# Altium integrated library Capacitors - Ceramic - 0201.IntLib: 1723 symbols (part 28 of 38)
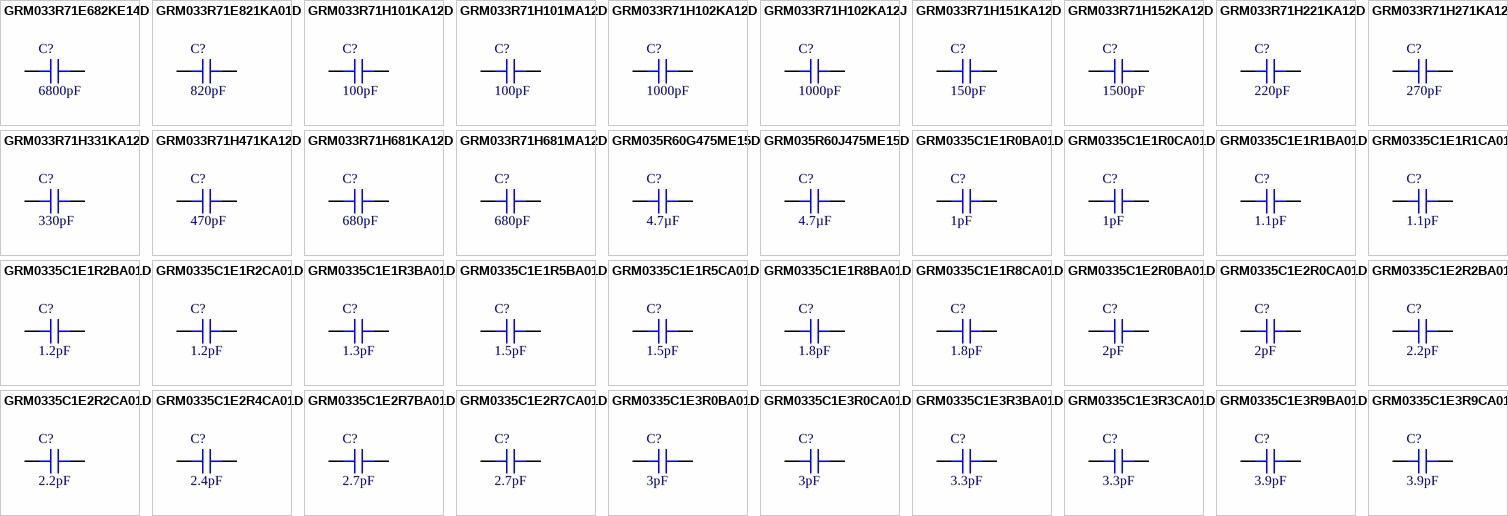
[diagram p70: symbols GRM033R71E682KE14D to GRM0335C1E3R9CA01D]

## GRM0335C1E2R0BA01D
designator C?, comment 2pF
CAP CER 2PF 25V C0G/NP0 0201; Part Number: GRM0335C1E2R0BA01D; Manufacturer: Murata Electronics; Temperature Coefficient: C0G, NP0; Tolerance: ±0.1pF; Value: 2pF; Applications: General Purpose; Capacitance: 2pF; ComponentLink1Description: Datasheet; ComponentLink1URL: https://www.murata.com/~/media/webrenewal/support/library/catalog/products/capacitor/mlcc/c02e.ashx?la=en-us; ComponentLink2Description: DigiKey Link; ComponentLink2URL: http://digikey.com/product-detail/en/murata-electronics/GRM0335C1E2R0BA01D/490-11290-1-ND/5333130; Device Package: 0201 (0603 Metric); LastUpdated: 9/2/2020 12:59:35 AM; Lifecycle Status: Active; Minimum Order: 1; Mounting Type: Surface Mount, MLCC; Operating Temperature: -55°C ~ 125°C; Package / Case: 0201 (0603 Metric); Packaging: CutTape; PartId: 522; Part Status: Active; Price: 0.10; Series: GRM; Size / Dimension: 0.024" L x 0.012" W (0.60mm x 0.30mm); Supplier 1: DigiKey; Supplier Part Number 1: 490-11290-1-ND; Thickness (Max): 0.013" (0.33mm); Voltage - Rated: 25V
footprint CAP 0201_0603
pins: 1, 2

## GRM0335C1E2R0CA01D
designator C?, comment 2pF
CAP CER 2PF 25V C0G/NP0 0201; Part Number: GRM0335C1E2R0CA01D; Manufacturer: Murata Electronics; Temperature Coefficient: C0G, NP0; Tolerance: ±0.25pF; Value: 2pF; Applications: General Purpose; Capacitance: 2pF; ComponentLink1Description: Datasheet; ComponentLink1URL: https://www.murata.com/~/media/webrenewal/support/library/catalog/products/capacitor/mlcc/c02e.ashx?la=en-us; ComponentLink2Description: DigiKey Link; ComponentLink2URL: http://digikey.com/product-detail/en/murata-electronics/GRM0335C1E2R0CA01D/490-11291-1-ND/5333131; Device Package: 0201 (0603 Metric); LastUpdated: 9/2/2020 12:58:59 AM; Lifecycle Status: Active; Minimum Order: 1; Mounting Type: Surface Mount, MLCC; Operating Temperature: -55°C ~ 125°C; Package / Case: 0201 (0603 Metric); Packaging: CutTape; PartId: 932; Part Status: Active; Price: 0.10; Series: GRM; Size / Dimension: 0.024" L x 0.012" W (0.60mm x 0.30mm); Supplier 1: DigiKey; Supplier Part Number 1: 490-11291-1-ND; Thickness (Max): 0.013" (0.33mm); Voltage - Rated: 25V
footprint CAP 0201_0603
pins: 1, 2

## GRM0335C1E2R2BA01D
designator C?, comment 2.2pF
CAP CER 2.2PF 25V C0G/NP0 0201; Part Number: GRM0335C1E2R2BA01D; Manufacturer: Murata Electronics; Temperature Coefficient: C0G, NP0; Tolerance: ±0.1pF; Value: 2.2pF; Applications: General Purpose; Capacitance: 2.2pF; ComponentLink1Description: Datasheet; ComponentLink1URL: https://www.murata.com/~/media/webrenewal/support/library/catalog/products/capacitor/mlcc/c02e.ashx?la=en-us; ComponentLink2Description: DigiKey Link; ComponentLink2URL: http://digikey.com/product-detail/en/murata-electronics/GRM0335C1E2R2BA01D/490-11292-1-ND/5333132; Device Package: 0201 (0603 Metric); LastUpdated: 9/2/2020 1:00:10 AM; Lifecycle Status: Active; Minimum Order: 1; Mounting Type: Surface Mount, MLCC; Operating Temperature: -55°C ~ 125°C; Package / Case: 0201 (0603 Metric); Packaging: CutTape; PartId: 117; Part Status: Active; Price: 0.10; Series: GRM; Size / Dimension: 0.024" L x 0.012" W (0.60mm x 0.30mm); Supplier 1: DigiKey; Supplier Part Number 1: 490-11292-1-ND; Thickness (Max): 0.013" (0.33mm); Voltage - Rated: 25V
footprint CAP 0201_0603
pins: 1, 2

## GRM0335C1E2R2CA01D
designator C?, comment 2.2pF
CAP CER 2.2PF 25V C0G/NP0 0201; Part Number: GRM0335C1E2R2CA01D; Manufacturer: Murata Electronics; Temperature Coefficient: C0G, NP0; Tolerance: ±0.25pF; Value: 2.2pF; Applications: General Purpose; Capacitance: 2.2pF; ComponentLink1Description: Datasheet; ComponentLink1URL: https://www.murata.com/~/media/webrenewal/support/library/catalog/products/capacitor/mlcc/c02e.ashx?la=en-us; ComponentLink2Description: DigiKey Link; ComponentLink2URL: http://digikey.com/product-detail/en/murata-electronics/GRM0335C1E2R2CA01D/490-11293-1-ND/5333133; Device Package: 0201 (0603 Metric); LastUpdated: 9/2/2020 12:59:01 AM; Lifecycle Status: Active; Minimum Order: 1; Mounting Type: Surface Mount, MLCC; Operating Temperature: -55°C ~ 125°C; Package / Case: 0201 (0603 Metric); Packaging: CutTape; PartId: 912; Part Status: Active; Price: 0.10; Series: GRM; Size / Dimension: 0.024" L x 0.012" W (0.60mm x 0.30mm); Supplier 1: DigiKey; Supplier Part Number 1: 490-11293-1-ND; Thickness (Max): 0.013" (0.33mm); Voltage - Rated: 25V
footprint CAP 0201_0603
pins: 1, 2

## GRM0335C1E2R4CA01D
designator C?, comment 2.4pF
CAP CER 2.4PF 25V C0G/NP0 0201; Part Number: GRM0335C1E2R4CA01D; Manufacturer: Murata Electronics; Temperature Coefficient: C0G, NP0; Tolerance: ±0.25pF; Value: 2.4pF; Applications: General Purpose; Capacitance: 2.4pF; ComponentLink1Description: Datasheet; ComponentLink1URL: https://www.murata.com/~/media/webrenewal/support/library/catalog/products/capacitor/mlcc/c02e.ashx?la=en-us; ComponentLink2Description: DigiKey Link; ComponentLink2URL: http://digikey.com/product-detail/en/murata-electronics/GRM0335C1E2R4CA01D/490-13321-1-ND/5973333; Device Package: 0201 (0603 Metric); LastUpdated: 9/2/2020 12:58:59 AM; Lifecycle Status: Active; Minimum Order: 1; Mounting Type: Surface Mount, MLCC; Operating Temperature: -55°C ~ 125°C; Package / Case: 0201 (0603 Metric); Packaging: CutTape; PartId: 939; Part Status: Active; Price: 0.10; Series: GRM; Size / Dimension: 0.024" L x 0.012" W (0.60mm x 0.30mm); Supplier 1: DigiKey; Supplier Part Number 1: 490-13321-1-ND; Thickness (Max): 0.013" (0.33mm); Voltage - Rated: 25V
footprint CAP 0201_0603
pins: 1, 2

## GRM0335C1E2R7BA01D
designator C?, comment 2.7pF
CAP CER 2.7PF 25V C0G/NP0 0201; Part Number: GRM0335C1E2R7BA01D; Manufacturer: Murata Electronics; Temperature Coefficient: C0G, NP0; Tolerance: ±0.1pF; Value: 2.7pF; Applications: General Purpose; Capacitance: 2.7pF; ComponentLink1Description: Datasheet; ComponentLink1URL: https://www.murata.com/~/media/webrenewal/support/library/catalog/products/capacitor/mlcc/c02e.ashx?la=en-us; ComponentLink2Description: DigiKey Link; ComponentLink2URL: http://digikey.com/product-detail/en/murata-electronics/GRM0335C1E2R7BA01D/490-11294-1-ND/5333134; Device Package: 0201 (0603 Metric); LastUpdated: 9/2/2020 12:59:34 AM; Lifecycle Status: Active; Minimum Order: 1; Mounting Type: Surface Mount, MLCC; Operating Temperature: -55°C ~ 125°C; Package / Case: 0201 (0603 Metric); Packaging: CutTape; PartId: 533; Part Status: Active; Price: 0.10; Series: GRM; Size / Dimension: 0.024" L x 0.012" W (0.60mm x 0.30mm); Supplier 1: DigiKey; Supplier Part Number 1: 490-11294-1-ND; Thickness (Max): 0.013" (0.33mm); Voltage - Rated: 25V
footprint CAP 0201_0603
pins: 1, 2

## GRM0335C1E2R7CA01D
designator C?, comment 2.7pF
CAP CER 2.7PF 25V C0G/NP0 0201; Part Number: GRM0335C1E2R7CA01D; Manufacturer: Murata Electronics; Temperature Coefficient: C0G, NP0; Tolerance: ±0.25pF; Value: 2.7pF; Applications: General Purpose; Capacitance: 2.7pF; ComponentLink1Description: Datasheet; ComponentLink1URL: https://www.murata.com/~/media/webrenewal/support/library/catalog/products/capacitor/mlcc/c02e.ashx?la=en-us; ComponentLink2Description: DigiKey Link; ComponentLink2URL: http://digikey.com/product-detail/en/murata-electronics/GRM0335C1E2R7CA01D/490-11970-1-ND/5403177; Device Package: 0201 (0603 Metric); LastUpdated: 9/2/2020 12:59:01 AM; Lifecycle Status: Active; Minimum Order: 1; Mounting Type: Surface Mount, MLCC; Operating Temperature: -55°C ~ 125°C; Package / Case: 0201 (0603 Metric); Packaging: CutTape; PartId: 917; Part Status: Active; Price: 0.10; Series: GRM; Size / Dimension: 0.024" L x 0.012" W (0.60mm x 0.30mm); Supplier 1: DigiKey; Supplier Part Number 1: 490-11970-1-ND; Thickness (Max): 0.013" (0.33mm); Voltage - Rated: 25V
footprint CAP 0201_0603
pins: 1, 2

## GRM0335C1E3R0BA01D
designator C?, comment 3pF
CAP CER 3PF 25V C0G/NP0 0201; Part Number: GRM0335C1E3R0BA01D; Manufacturer: Murata Electronics; Temperature Coefficient: C0G, NP0; Tolerance: ±0.1pF; Value: 3pF; Applications: General Purpose; Capacitance: 3pF; ComponentLink1Description: Datasheet; ComponentLink1URL: https://www.murata.com/~/media/webrenewal/support/library/catalog/products/capacitor/mlcc/c02e.ashx?la=en-us; ComponentLink2Description: DigiKey Link; ComponentLink2URL: http://digikey.com/product-detail/en/murata-electronics/GRM0335C1E3R0BA01D/490-12678-1-ND/5797647; Device Package: 0201 (0603 Metric); LastUpdated: 9/2/2020 12:59:36 AM; Lifecycle Status: Active; Minimum Order: 1; Mounting Type: Surface Mount, MLCC; Operating Temperature: -55°C ~ 125°C; Package / Case: 0201 (0603 Metric); Packaging: CutTape; PartId: 510; Part Status: Active; Price: 0.10; Series: GRM; Size / Dimension: 0.024" L x 0.012" W (0.60mm x 0.30mm); Supplier 1: DigiKey; Supplier Part Number 1: 490-12678-1-ND; Thickness (Max): 0.013" (0.33mm); Voltage - Rated: 25V
footprint CAP 0201_0603
pins: 1, 2

## GRM0335C1E3R0CA01D
designator C?, comment 3pF
CAP CER 3PF 25V C0G/NP0 0201; Part Number: GRM0335C1E3R0CA01D; Manufacturer: Murata Electronics; Temperature Coefficient: C0G, NP0; Tolerance: ±0.25pF; Value: 3pF; Applications: General Purpose; Capacitance: 3pF; ComponentLink1Description: Datasheet; ComponentLink1URL: https://www.murata.com/~/media/webrenewal/support/library/catalog/products/capacitor/mlcc/c02e.ashx?la=en-us; ComponentLink2Description: DigiKey Link; ComponentLink2URL: http://digikey.com/product-detail/en/murata-electronics/GRM0335C1E3R0CA01D/490-3127-1-ND/702668; Device Package: 0201 (0603 Metric); LastUpdated: 9/2/2020 12:59:02 AM; Lifecycle Status: Active; Minimum Order: 1; Mounting Type: Surface Mount, MLCC; Operating Temperature: -55°C ~ 125°C; Package / Case: 0201 (0603 Metric); Packaging: CutTape; PartId: 906; Part Status: Active; Price: 0.10; Series: GRM; Size / Dimension: 0.024" L x 0.012" W (0.60mm x 0.30mm); Supplier 1: DigiKey; Supplier Part Number 1: 490-3127-1-ND; Thickness (Max): 0.013" (0.33mm); Voltage - Rated: 25V
footprint CAP 0201_0603
pins: 1, 2

## GRM0335C1E3R3BA01D
designator C?, comment 3.3pF
CAP CER 3.3PF 25V C0G/NP0 0201; Part Number: GRM0335C1E3R3BA01D; Manufacturer: Murata Electronics; Temperature Coefficient: C0G, NP0; Tolerance: ±0.1pF; Value: 3.3pF; Applications: General Purpose; Capacitance: 3.3pF; ComponentLink1Description: Datasheet; ComponentLink1URL: https://www.murata.com/~/media/webrenewal/support/library/catalog/products/capacitor/mlcc/c02e.ashx?la=en-us; ComponentLink2Description: DigiKey Link; ComponentLink2URL: http://digikey.com/product-detail/en/murata-electronics/GRM0335C1E3R3BA01D/490-11296-1-ND/5333136; Device Package: 0201 (0603 Metric); LastUpdated: 9/2/2020 12:59:36 AM; Lifecycle Status: Active; Minimum Order: 1; Mounting Type: Surface Mount, MLCC; Operating Temperature: -55°C ~ 125°C; Package / Case: 0201 (0603 Metric); Packaging: CutTape; PartId: 511; Part Status: Active; Price: 0.10; Series: GRM; Size / Dimension: 0.024" L x 0.012" W (0.60mm x 0.30mm); Supplier 1: DigiKey; Supplier Part Number 1: 490-11296-1-ND; Thickness (Max): 0.013" (0.33mm); Voltage - Rated: 25V
footprint CAP 0201_0603
pins: 1, 2

## GRM0335C1E3R3CA01D
designator C?, comment 3.3pF
CAP CER 3.3PF 25V C0G/NP0 0201; Part Number: GRM0335C1E3R3CA01D; Manufacturer: Murata Electronics; Temperature Coefficient: C0G, NP0; Tolerance: ±0.25pF; Value: 3.3pF; Applications: General Purpose; Capacitance: 3.3pF; ComponentLink1Description: Datasheet; ComponentLink1URL: https://www.murata.com/~/media/webrenewal/support/library/catalog/products/capacitor/mlcc/c02e.ashx?la=en-us; ComponentLink2Description: DigiKey Link; ComponentLink2URL: http://digikey.com/product-detail/en/murata-electronics/GRM0335C1E3R3CA01D/490-11297-1-ND/5333137; Device Package: 0201 (0603 Metric); LastUpdated: 9/2/2020 12:59:00 AM; Lifecycle Status: Active; Minimum Order: 1; Mounting Type: Surface Mount, MLCC; Operating Temperature: -55°C ~ 125°C; Package / Case: 0201 (0603 Metric); Packaging: CutTape; PartId: 921; Part Status: Active; Price: 0.10; Series: GRM; Size / Dimension: 0.024" L x 0.012" W (0.60mm x 0.30mm); Supplier 1: DigiKey; Supplier Part Number 1: 490-11297-1-ND; Thickness (Max): 0.013" (0.33mm); Voltage - Rated: 25V
footprint CAP 0201_0603
pins: 1, 2

## GRM0335C1E3R9BA01D
designator C?, comment 3.9pF
CAP CER 3.9PF 25V C0G/NP0 0201; Part Number: GRM0335C1E3R9BA01D; Manufacturer: Murata Electronics; Temperature Coefficient: C0G, NP0; Tolerance: ±0.1pF; Value: 3.9pF; Applications: General Purpose; Capacitance: 3.9pF; ComponentLink1Description: Datasheet; ComponentLink1URL: https://www.murata.com/~/media/webrenewal/support/library/catalog/products/capacitor/mlcc/c02e.ashx?la=en-us; ComponentLink2Description: DigiKey Link; ComponentLink2URL: http://digikey.com/product-detail/en/murata-electronics/GRM0335C1E3R9BA01D/490-12679-1-ND/5797648; Device Package: 0201 (0603 Metric); LastUpdated: 9/2/2020 12:59:32 AM; Lifecycle Status: Active; Minimum Order: 1; Mounting Type: Surface Mount, MLCC; Operating Temperature: -55°C ~ 125°C; Package / Case: 0201 (0603 Metric); Packaging: CutTape; PartId: 549; Part Status: Active; Price: 0.10; Series: GRM; Size / Dimension: 0.024" L x 0.012" W (0.60mm x 0.30mm); Supplier 1: DigiKey; Supplier Part Number 1: 490-12679-1-ND; Thickness (Max): 0.013" (0.33mm); Voltage - Rated: 25V
footprint CAP 0201_0603
pins: 1, 2

## GRM0335C1E3R9CA01D
designator C?, comment 3.9pF
CAP CER 3.9PF 25V C0G/NP0 0201; Part Number: GRM0335C1E3R9CA01D; Manufacturer: Murata Electronics; Temperature Coefficient: C0G, NP0; Tolerance: ±0.25pF; Value: 3.9pF; Applications: General Purpose; Capacitance: 3.9pF; ComponentLink1Description: Datasheet; ComponentLink1URL: https://www.murata.com/~/media/webrenewal/support/library/catalog/products/capacitor/mlcc/c02e.ashx?la=en-us; ComponentLink2Description: DigiKey Link; ComponentLink2URL: http://digikey.com/product-detail/en/murata-electronics/GRM0335C1E3R9CA01D/490-10679-1-ND/5251426; Device Package: 0201 (0603 Metric); LastUpdated: 9/2/2020 1:00:06 AM; Lifecycle Status: Active; Minimum Order: 1; Mounting Type: Surface Mount, MLCC; Operating Temperature: -55°C ~ 125°C; Package / Case: 0201 (0603 Metric); Packaging: CutTape; PartId: 161; Part Status: Active; Price: 0.10; Series: GRM; Size / Dimension: 0.024" L x 0.012" W (0.60mm x 0.30mm); Supplier 1: DigiKey; Supplier Part Number 1: 490-10679-1-ND; Thickness (Max): 0.013" (0.33mm); Voltage - Rated: 25V
footprint CAP 0201_0603
pins: 1, 2

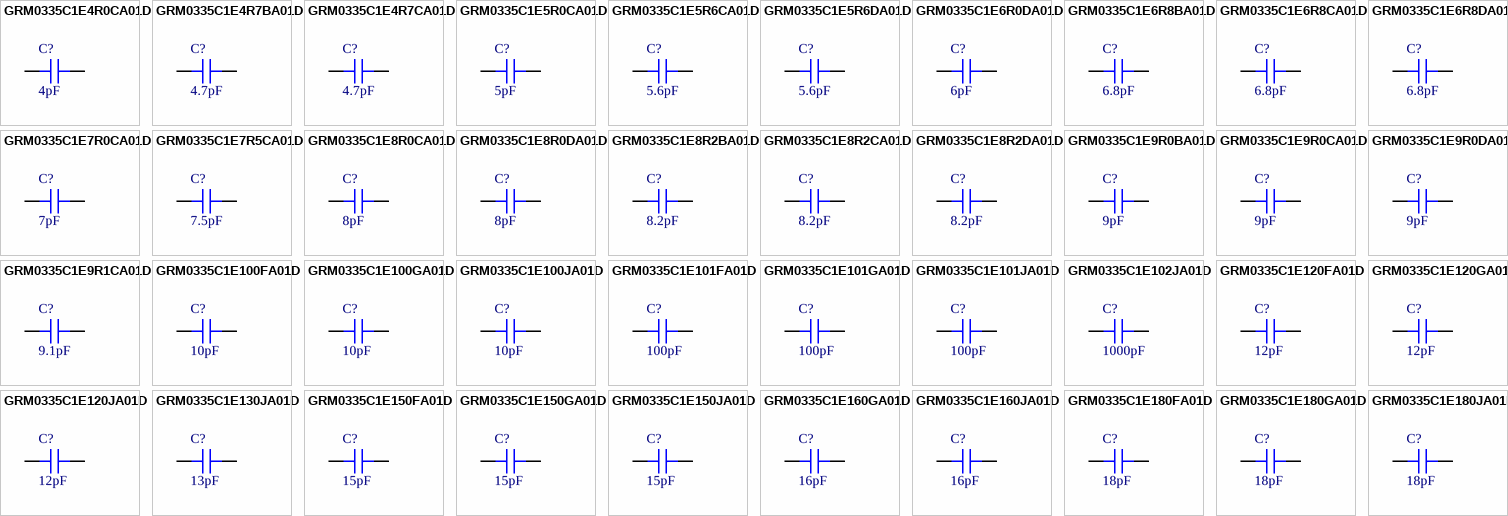
[diagram p31: symbols GRM0335C1E4R0CA01D to GRM0335C1E180JA01D]

## GRM0335C1E4R0CA01D
designator C?, comment 4pF
CAP CER 4PF 25V C0G/NP0 0201; Part Number: GRM0335C1E4R0CA01D; Manufacturer: Murata Electronics; Temperature Coefficient: C0G, NP0; Tolerance: ±0.25pF; Value: 4pF; Applications: General Purpose; Capacitance: 4pF; ComponentLink1Description: Datasheet; ComponentLink1URL: https://search.murata.co.jp/Ceramy/image/img/A01X/G101/ENG/GRM0335C1E4R0CA01-01.pdf; ComponentLink2Description: DigiKey Link; ComponentLink2URL: http://digikey.com/product-detail/en/murata-electronics/GRM0335C1E4R0CA01D/490-14549-1-ND/6606155; Device Package: 0201 (0603 Metric); LastUpdated: 9/2/2020 12:59:00 AM; Lifecycle Status: Active; Minimum Order: 1; Mounting Type: Surface Mount, MLCC; Operating Temperature: -55°C ~ 125°C; Package / Case: 0201 (0603 Metric); Packaging: CutTape; PartId: 927; Part Status: Active; Price: 0.10; Series: GRM; Size / Dimension: 0.024" L x 0.012" W (0.60mm x 0.30mm); Supplier 1: DigiKey; Supplier Part Number 1: 490-14549-1-ND; Thickness (Max): 0.013" (0.33mm); Voltage - Rated: 25V
footprint CAP 0201_0603
pins: 1, 2

## GRM0335C1E4R7BA01D
designator C?, comment 4.7pF
CAP CER 4.7PF 25V C0G/NP0 0201; Part Number: GRM0335C1E4R7BA01D; Manufacturer: Murata Electronics; Temperature Coefficient: C0G, NP0; Tolerance: ±0.1pF; Value: 4.7pF; Applications: General Purpose; Capacitance: 4.7pF; ComponentLink1Description: Datasheet; ComponentLink1URL: https://search.murata.co.jp/Ceramy/image/img/A01X/G101/ENG/GRM0335C1E4R7BA01-01.pdf; ComponentLink2Description: DigiKey Link; ComponentLink2URL: http://digikey.com/product-detail/en/murata-electronics/GRM0335C1E4R7BA01D/490-12680-1-ND/5797649; Device Package: 0201 (0603 Metric); LastUpdated: 9/2/2020 12:59:18 AM; Lifecycle Status: Active; Minimum Order: 1; Mounting Type: Surface Mount, MLCC; Operating Temperature: -55°C ~ 125°C; Package / Case: 0201 (0603 Metric); Packaging: CutTape; PartId: 715; Part Status: Active; Price: 0.10; Series: GRM; Size / Dimension: 0.024" L x 0.012" W (0.60mm x 0.30mm); Supplier 1: DigiKey; Supplier Part Number 1: 490-12680-1-ND; Thickness (Max): 0.013" (0.33mm); Voltage - Rated: 25V
footprint CAP 0201_0603
pins: 1, 2

## GRM0335C1E4R7CA01D
designator C?, comment 4.7pF
CAP CER 4.7PF 25V C0G/NP0 0201; Part Number: GRM0335C1E4R7CA01D; Manufacturer: Murata Electronics; Temperature Coefficient: C0G, NP0; Tolerance: ±0.25pF; Value: 4.7pF; Applications: General Purpose; Capacitance: 4.7pF; ComponentLink1Description: Datasheet; ComponentLink1URL: https://search.murata.co.jp/Ceramy/image/img/A01X/G101/ENG/GRM0335C1E4R7CA01-01.pdf; ComponentLink2Description: DigiKey Link; ComponentLink2URL: http://digikey.com/product-detail/en/murata-electronics/GRM0335C1E4R7CA01D/490-11299-1-ND/5333139; Device Package: 0201 (0603 Metric); LastUpdated: 9/2/2020 12:58:59 AM; Lifecycle Status: Active; Minimum Order: 1; Mounting Type: Surface Mount, MLCC; Operating Temperature: -55°C ~ 125°C; Package / Case: 0201 (0603 Metric); Packaging: CutTape; PartId: 938; Part Status: Active; Price: 0.10; Series: GRM; Size / Dimension: 0.024" L x 0.012" W (0.60mm x 0.30mm); Supplier 1: DigiKey; Supplier Part Number 1: 490-11299-1-ND; Thickness (Max): 0.013" (0.33mm); Voltage - Rated: 25V
footprint CAP 0201_0603
pins: 1, 2

## GRM0335C1E5R0CA01D
designator C?, comment 5pF
CAP CER 5PF 25V C0G/NP0 0201; Part Number: GRM0335C1E5R0CA01D; Manufacturer: Murata Electronics; Temperature Coefficient: C0G, NP0; Tolerance: ±0.25pF; Value: 5pF; Applications: General Purpose; Capacitance: 5pF; ComponentLink1Description: Datasheet; ComponentLink1URL: https://www.murata.com/~/media/webrenewal/support/library/catalog/products/capacitor/mlcc/c02e.ashx?la=en-us; ComponentLink2Description: DigiKey Link; ComponentLink2URL: http://digikey.com/product-detail/en/murata-electronics/GRM0335C1E5R0CA01D/490-3132-1-ND/702673; Device Package: 0201 (0603 Metric); LastUpdated: 9/2/2020 12:58:59 AM; Lifecycle Status: Active; Minimum Order: 1; Mounting Type: Surface Mount, MLCC; Operating Temperature: -55°C ~ 125°C; Package / Case: 0201 (0603 Metric); Packaging: CutTape; PartId: 936; Part Status: Active; Price: 0.10; Series: GRM; Size / Dimension: 0.024" L x 0.012" W (0.60mm x 0.30mm); Supplier 1: DigiKey; Supplier Part Number 1: 490-3132-1-ND; Thickness (Max): 0.013" (0.33mm); Voltage - Rated: 25V
footprint CAP 0201_0603
pins: 1, 2

## GRM0335C1E5R6CA01D
designator C?, comment 5.6pF
CAP CER 5.6PF 25V C0G/NP0 0201; Part Number: GRM0335C1E5R6CA01D; Manufacturer: Murata Electronics; Temperature Coefficient: C0G, NP0; Tolerance: ±0.25pF; Value: 5.6pF; Applications: General Purpose; Capacitance: 5.6pF; ComponentLink1Description: Datasheet; ComponentLink1URL: https://www.murata.com/~/media/webrenewal/support/library/catalog/products/capacitor/mlcc/c02e.ashx?la=en-us; ComponentLink2Description: DigiKey Link; ComponentLink2URL: http://digikey.com/product-detail/en/murata-electronics/GRM0335C1E5R6CA01D/490-11300-1-ND/5333140; Device Package: 0201 (0603 Metric); LastUpdated: 9/2/2020 12:59:02 AM; Lifecycle Status: Active; Minimum Order: 1; Mounting Type: Surface Mount, MLCC; Operating Temperature: -55°C ~ 125°C; Package / Case: 0201 (0603 Metric); Packaging: CutTape; PartId: 899; Part Status: Active; Price: 0.10; Series: GRM; Size / Dimension: 0.024" L x 0.012" W (0.60mm x 0.30mm); Supplier 1: DigiKey; Supplier Part Number 1: 490-11300-1-ND; Thickness (Max): 0.013" (0.33mm); Voltage - Rated: 25V
footprint CAP 0201_0603
pins: 1, 2

## GRM0335C1E5R6DA01D
designator C?, comment 5.6pF
CAP CER 5.6PF 25V NP0 0201; Part Number: GRM0335C1E5R6DA01D; Manufacturer: Murata Electronics; Temperature Coefficient: C0G, NP0; Tolerance: ±0.5pF; Value: 5.6pF; Applications: General Purpose; Capacitance: 5.6pF; ComponentLink1Description: Datasheet; ComponentLink1URL: https://search.murata.co.jp/Ceramy/image/img/A01X/G101/ENG/GRM0335C1E5R6DA01-01.pdf; ComponentLink2Description: DigiKey Link; ComponentLink2URL: http://digikey.com/product-detail/en/murata-electronics/GRM0335C1E5R6DA01D/490-17809-1-ND/8540045; Device Package: 0201 (0603 Metric); LastUpdated: 9/2/2020 12:59:02 AM; Lifecycle Status: Active; Minimum Order: 1; Mounting Type: Surface Mount, MLCC; Operating Temperature: -55°C ~ 125°C; Package / Case: 0201 (0603 Metric); Packaging: CutTape; PartId: 895; Part Status: Active; Price: 0.10; Series: GRM; Size / Dimension: 0.024" L x 0.012" W (0.60mm x 0.30mm); Supplier 1: DigiKey; Supplier Part Number 1: 490-17809-1-ND; Thickness (Max): 0.013" (0.33mm); Voltage - Rated: 25V
footprint CAP 0201_0603
pins: 1, 2

## GRM0335C1E6R0DA01D
designator C?, comment 6pF
CAP CER 6PF 25V NP0 0201; Part Number: GRM0335C1E6R0DA01D; Manufacturer: Murata Electronics; Temperature Coefficient: C0G, NP0; Tolerance: ±0.5pF; Value: 6pF; Applications: General Purpose; Capacitance: 6pF; ComponentLink1Description: Datasheet; ComponentLink1URL: https://search.murata.co.jp/Ceramy/image/img/A01X/G101/ENG/GRM0335C1E6R0DA01-01.pdf; ComponentLink2Description: DigiKey Link; ComponentLink2URL: http://digikey.com/product-detail/en/murata-electronics/GRM0335C1E6R0DA01D/490-16716-1-ND/7595624; Device Package: 0201 (0603 Metric); LastUpdated: 9/2/2020 12:58:49 AM; Lifecycle Status: Active; Minimum Order: 1; Mounting Type: Surface Mount, MLCC; Operating Temperature: -55°C ~ 125°C; Package / Case: 0201 (0603 Metric); Packaging: CutTape; PartId: 1053; Part Status: Active; Price: 0.10; Series: GRM; Size / Dimension: 0.024" L x 0.012" W (0.60mm x 0.30mm); Supplier 1: DigiKey; Supplier Part Number 1: 490-16716-1-ND; Thickness (Max): 0.013" (0.33mm); Voltage - Rated: 25V
footprint CAP 0201_0603
pins: 1, 2

## GRM0335C1E6R8BA01D
designator C?, comment 6.8pF
CAP CER 6.8PF 25V C0G/NP0 0201; Part Number: GRM0335C1E6R8BA01D; Manufacturer: Murata Electronics; Temperature Coefficient: C0G, NP0; Tolerance: ±0.1pF; Value: 6.8pF; Applications: General Purpose; Capacitance: 6.8pF; ComponentLink1Description: Datasheet; ComponentLink1URL: https://search.murata.co.jp/Ceramy/image/img/A01X/G101/ENG/GRM0335C1E6R8BA01-01.pdf; ComponentLink2Description: DigiKey Link; ComponentLink2URL: http://digikey.com/product-detail/en/murata-electronics/GRM0335C1E6R8BA01D/490-14551-1-ND/6606157; Device Package: 0201 (0603 Metric); LastUpdated: 9/2/2020 12:59:35 AM; Lifecycle Status: Active; Minimum Order: 1; Mounting Type: Surface Mount, MLCC; Operating Temperature: -55°C ~ 125°C; Package / Case: 0201 (0603 Metric); Packaging: CutTape; PartId: 517; Part Status: Active; Price: 0.10; Series: GRM; Size / Dimension: 0.024" L x 0.012" W (0.60mm x 0.30mm); Supplier 1: DigiKey; Supplier Part Number 1: 490-14551-1-ND; Thickness (Max): 0.013" (0.33mm); Voltage - Rated: 25V
footprint CAP 0201_0603
pins: 1, 2

## GRM0335C1E6R8CA01D
designator C?, comment 6.8pF
CAP CER 6.8PF 25V C0G/NP0 0201; Part Number: GRM0335C1E6R8CA01D; Manufacturer: Murata Electronics; Temperature Coefficient: C0G, NP0; Tolerance: ±0.25pF; Value: 6.8pF; Applications: General Purpose; Capacitance: 6.8pF; ComponentLink1Description: Datasheet; ComponentLink1URL: https://search.murata.co.jp/Ceramy/image/img/A01X/G101/ENG/GRM0335C1E6R8CA01-01.pdf; ComponentLink2Description: DigiKey Link; ComponentLink2URL: http://digikey.com/product-detail/en/murata-electronics/GRM0335C1E6R8CA01D/490-13323-1-ND/5973335; Device Package: 0201 (0603 Metric); LastUpdated: 9/2/2020 12:59:01 AM; Lifecycle Status: Active; Minimum Order: 1; Mounting Type: Surface Mount, MLCC; Operating Temperature: -55°C ~ 125°C; Package / Case: 0201 (0603 Metric); Packaging: CutTape; PartId: 913; Part Status: Active; Price: 0.10; Series: GRM; Size / Dimension: 0.024" L x 0.012" W (0.60mm x 0.30mm); Supplier 1: DigiKey; Supplier Part Number 1: 490-13323-1-ND; Thickness (Max): 0.013" (0.33mm); Voltage - Rated: 25V
footprint CAP 0201_0603
pins: 1, 2

## GRM0335C1E6R8DA01D
designator C?, comment 6.8pF
CAP CER 6.8PF 25V C0G/NP0 0201; Part Number: GRM0335C1E6R8DA01D; Manufacturer: Murata Electronics; Temperature Coefficient: C0G, NP0; Tolerance: ±0.5pF; Value: 6.8pF; Applications: General Purpose; Capacitance: 6.8pF; ComponentLink1Description: Datasheet; ComponentLink1URL: https://search.murata.co.jp/Ceramy/image/img/A01X/G101/ENG/GRM0335C1E6R8DA01-01.pdf; ComponentLink2Description: DigiKey Link; ComponentLink2URL: http://digikey.com/product-detail/en/murata-electronics/GRM0335C1E6R8DA01D/490-14552-1-ND/6606158; Device Package: 0201 (0603 Metric); LastUpdated: 9/2/2020 12:59:01 AM; Lifecycle Status: Active; Minimum Order: 1; Mounting Type: Surface Mount, MLCC; Operating Temperature: -55°C ~ 125°C; Package / Case: 0201 (0603 Metric); Packaging: CutTape; PartId: 914; Part Status: Active; Price: 0.10; Series: GRM; Size / Dimension: 0.024" L x 0.012" W (0.60mm x 0.30mm); Supplier 1: DigiKey; Supplier Part Number 1: 490-14552-1-ND; Thickness (Max): 0.013" (0.33mm); Voltage - Rated: 25V
footprint CAP 0201_0603
pins: 1, 2

## GRM0335C1E7R0CA01D
designator C?, comment 7pF
CAP CER 7PF 25V C0G/NP0 0201; Part Number: GRM0335C1E7R0CA01D; Manufacturer: Murata Electronics; Temperature Coefficient: C0G, NP0; Tolerance: ±0.25pF; Value: 7pF; Applications: General Purpose; Capacitance: 7pF; ComponentLink1Description: Datasheet; ComponentLink1URL: https://www.murata.com/~/media/webrenewal/support/library/catalog/products/capacitor/mlcc/c02e.ashx?la=en-us; ComponentLink2Description: DigiKey Link; ComponentLink2URL: http://digikey.com/product-detail/en/murata-electronics/GRM0335C1E7R0CA01D/490-13324-1-ND/5973336; Device Package: 0201 (0603 Metric); LastUpdated: 9/2/2020 12:59:00 AM; Lifecycle Status: Active; Minimum Order: 1; Mounting Type: Surface Mount, MLCC; Operating Temperature: -55°C ~ 125°C; Package / Case: 0201 (0603 Metric); Packaging: CutTape; PartId: 925; Part Status: Active; Price: 0.10; Series: GRM; Size / Dimension: 0.024" L x 0.012" W (0.60mm x 0.30mm); Supplier 1: DigiKey; Supplier Part Number 1: 490-13324-1-ND; Thickness (Max): 0.013" (0.33mm); Voltage - Rated: 25V
footprint CAP 0201_0603
pins: 1, 2

## GRM0335C1E7R5CA01D
designator C?, comment 7.5pF
CAP CER 7.5PF 25V C0G/NP0 0201; Part Number: GRM0335C1E7R5CA01D; Manufacturer: Murata Electronics; Temperature Coefficient: C0G, NP0; Tolerance: ±0.25pF; Value: 7.5pF; Applications: General Purpose; Capacitance: 7.5pF; ComponentLink1Description: Datasheet; ComponentLink1URL: https://www.murata.com/~/media/webrenewal/support/library/catalog/products/capacitor/mlcc/c02e.ashx?la=en-us; ComponentLink2Description: DigiKey Link; ComponentLink2URL: http://digikey.com/product-detail/en/murata-electronics/GRM0335C1E7R5CA01D/490-11302-1-ND/5333142; Device Package: 0201 (0603 Metric); LastUpdated: 9/2/2020 12:59:00 AM; Lifecycle Status: Active; Minimum Order: 1; Mounting Type: Surface Mount, MLCC; Operating Temperature: -55°C ~ 125°C; Package / Case: 0201 (0603 Metric); Packaging: CutTape; PartId: 924; Part Status: Active; Price: 0.10; Series: GRM; Size / Dimension: 0.024" L x 0.012" W (0.60mm x 0.30mm); Supplier 1: DigiKey; Supplier Part Number 1: 490-11302-1-ND; Thickness (Max): 0.013" (0.33mm); Voltage - Rated: 25V
footprint CAP 0201_0603
pins: 1, 2

## GRM0335C1E8R0CA01D
designator C?, comment 8pF
CAP CER 8PF 25V C0G/NP0 0201; Part Number: GRM0335C1E8R0CA01D; Manufacturer: Murata Electronics; Temperature Coefficient: C0G, NP0; Tolerance: ±0.25pF; Value: 8pF; Applications: General Purpose; Capacitance: 8pF; ComponentLink1Description: Datasheet; ComponentLink1URL: https://www.murata.com/~/media/webrenewal/support/library/catalog/products/capacitor/mlcc/c02e.ashx?la=en-us; ComponentLink2Description: DigiKey Link; ComponentLink2URL: http://digikey.com/product-detail/en/murata-electronics/GRM0335C1E8R0CA01D/490-12681-1-ND/5797650; Device Package: 0201 (0603 Metric); LastUpdated: 9/2/2020 12:59:01 AM; Lifecycle Status: Active; Minimum Order: 1; Mounting Type: Surface Mount, MLCC; Operating Temperature: -55°C ~ 125°C; Package / Case: 0201 (0603 Metric); Packaging: CutTape; PartId: 911; Part Status: Active; Price: 0.10; Series: GRM; Size / Dimension: 0.024" L x 0.012" W (0.60mm x 0.30mm); Supplier 1: DigiKey; Supplier Part Number 1: 490-12681-1-ND; Thickness (Max): 0.013" (0.33mm); Voltage - Rated: 25V
footprint CAP 0201_0603
pins: 1, 2

## GRM0335C1E8R0DA01D
designator C?, comment 8pF
CAP CER 8PF 25V NP0 0201; Part Number: GRM0335C1E8R0DA01D; Manufacturer: Murata Electronics; Temperature Coefficient: C0G, NP0; Tolerance: ±0.5pF; Value: 8pF; Applications: General Purpose; Capacitance: 8pF; ComponentLink1Description: Datasheet; ComponentLink1URL: https://search.murata.co.jp/Ceramy/image/img/A01X/G101/ENG/GRM0335C1E8R0DA01-01.pdf; ComponentLink2Description: DigiKey Link; ComponentLink2URL: http://digikey.com/product-detail/en/murata-electronics/GRM0335C1E8R0DA01D/490-16717-1-ND/7595625; Device Package: 0201 (0603 Metric); LastUpdated: 9/2/2020 12:58:15 AM; Lifecycle Status: Active; Minimum Order: 1; Mounting Type: Surface Mount, MLCC; Operating Temperature: -55°C ~ 125°C; Package / Case: 0201 (0603 Metric); Packaging: CutTape; PartId: 1435; Part Status: Active; Price: 0.10; Series: GRM; Size / Dimension: 0.024" L x 0.012" W (0.60mm x 0.30mm); Supplier 1: DigiKey; Supplier Part Number 1: 490-16717-1-ND; Thickness (Max): 0.013" (0.33mm); Voltage - Rated: 25V
footprint CAP 0201_0603
pins: 1, 2

## GRM0335C1E8R2BA01D
designator C?, comment 8.2pF
CAP CER 8.2PF 25V C0G/NP0 0201; Part Number: GRM0335C1E8R2BA01D; Manufacturer: Murata Electronics; Temperature Coefficient: C0G, NP0; Tolerance: ±0.1pF; Value: 8.2pF; Applications: General Purpose; Capacitance: 8.2pF; ComponentLink1Description: Datasheet; ComponentLink1URL: https://www.murata.com/~/media/webrenewal/support/library/catalog/products/capacitor/mlcc/c02e.ashx?la=en-us; ComponentLink2Description: DigiKey Link; ComponentLink2URL: http://digikey.com/product-detail/en/murata-electronics/GRM0335C1E8R2BA01D/490-11304-1-ND/5333144; Device Package: 0201 (0603 Metric); LastUpdated: 9/2/2020 12:58:52 AM; Lifecycle Status: Active; Minimum Order: 1; Mounting Type: Surface Mount, MLCC; Operating Temperature: -55°C ~ 125°C; Package / Case: 0201 (0603 Metric); Packaging: CutTape; PartId: 1012; Part Status: Active; Price: 0.10; Series: GRM; Size / Dimension: 0.024" L x 0.012" W (0.60mm x 0.30mm); Supplier 1: DigiKey; Supplier Part Number 1: 490-11304-1-ND; Thickness (Max): 0.013" (0.33mm); Voltage - Rated: 25V
footprint CAP 0201_0603
pins: 1, 2

## GRM0335C1E8R2CA01D
designator C?, comment 8.2pF
CAP CER 8.2PF 25V C0G/NP0 0201; Part Number: GRM0335C1E8R2CA01D; Manufacturer: Murata Electronics; Temperature Coefficient: C0G, NP0; Tolerance: ±0.25pF; Value: 8.2pF; Applications: General Purpose; Capacitance: 8.2pF; ComponentLink1Description: Datasheet; ComponentLink1URL: https://www.murata.com/~/media/webrenewal/support/library/catalog/products/capacitor/mlcc/c02e.ashx?la=en-us; ComponentLink2Description: DigiKey Link; ComponentLink2URL: http://digikey.com/product-detail/en/murata-electronics/GRM0335C1E8R2CA01D/490-11305-1-ND/5333145; Device Package: 0201 (0603 Metric); LastUpdated: 9/2/2020 12:59:01 AM; Lifecycle Status: Active; Minimum Order: 1; Mounting Type: Surface Mount, MLCC; Operating Temperature: -55°C ~ 125°C; Package / Case: 0201 (0603 Metric); Packaging: CutTape; PartId: 910; Part Status: Active; Price: 0.10; Series: GRM; Size / Dimension: 0.024" L x 0.012" W (0.60mm x 0.30mm); Supplier 1: DigiKey; Supplier Part Number 1: 490-11305-1-ND; Thickness (Max): 0.013" (0.33mm); Voltage - Rated: 25V
footprint CAP 0201_0603
pins: 1, 2

## GRM0335C1E8R2DA01D
designator C?, comment 8.2pF
CAP CER 8.2PF 25V C0G/NP0 0201; Part Number: GRM0335C1E8R2DA01D; Manufacturer: Murata Electronics; Temperature Coefficient: C0G, NP0; Tolerance: ±0.5pF; Value: 8.2pF; Applications: General Purpose; Capacitance: 8.2pF; ComponentLink1Description: Datasheet; ComponentLink1URL: https://www.murata.com/~/media/webrenewal/support/library/catalog/products/capacitor/mlcc/c02e.ashx?la=en-us; ComponentLink2Description: DigiKey Link; ComponentLink2URL: http://digikey.com/product-detail/en/murata-electronics/GRM0335C1E8R2DA01D/490-3140-1-ND/702681; Device Package: 0201 (0603 Metric); LastUpdated: 9/2/2020 12:59:02 AM; Lifecycle Status: Active; Minimum Order: 1; Mounting Type: Surface Mount, MLCC; Operating Temperature: -55°C ~ 125°C; Package / Case: 0201 (0603 Metric); Packaging: CutTape; PartId: 898; Part Status: Active; Price: 0.10; Series: GRM; Size / Dimension: 0.024" L x 0.012" W (0.60mm x 0.30mm); Supplier 1: DigiKey; Supplier Part Number 1: 490-3140-1-ND; Thickness (Max): 0.013" (0.33mm); Voltage - Rated: 25V
footprint CAP 0201_0603
pins: 1, 2

## GRM0335C1E9R0BA01D
designator C?, comment 9pF
CAP CER 9PF 25V C0G/NP0 0201; Part Number: GRM0335C1E9R0BA01D; Manufacturer: Murata Electronics; Temperature Coefficient: C0G, NP0; Tolerance: ±0.1pF; Value: 9pF; Applications: General Purpose; Capacitance: 9pF; ComponentLink1Description: Datasheet; ComponentLink1URL: https://www.murata.com/~/media/webrenewal/support/library/catalog/products/capacitor/mlcc/c02e.ashx?la=en-us; ComponentLink2Description: DigiKey Link; ComponentLink2URL: http://digikey.com/product-detail/en/murata-electronics/GRM0335C1E9R0BA01D/490-13325-1-ND/5973337; Device Package: 0201 (0603 Metric); LastUpdated: 9/2/2020 12:59:33 AM; Lifecycle Status: Active; Minimum Order: 1; Mounting Type: Surface Mount, MLCC; Operating Temperature: -55°C ~ 125°C; Package / Case: 0201 (0603 Metric); Packaging: CutTape; PartId: 544; Part Status: Active; Price: 0.10; Series: GRM; Size / Dimension: 0.024" L x 0.012" W (0.60mm x 0.30mm); Supplier 1: DigiKey; Supplier Part Number 1: 490-13325-1-ND; Thickness (Max): 0.013" (0.33mm); Voltage - Rated: 25V
footprint CAP 0201_0603
pins: 1, 2

## GRM0335C1E9R0CA01D
designator C?, comment 9pF
CAP CER 9PF 25V NP0 0201; Part Number: GRM0335C1E9R0CA01D; Manufacturer: Murata Electronics; Temperature Coefficient: C0G, NP0; Tolerance: ±0.25pF; Value: 9pF; Applications: General Purpose; Capacitance: 9pF; ComponentLink1Description: Datasheet; ComponentLink1URL: https://search.murata.co.jp/Ceramy/image/img/A01X/G101/ENG/GRM0335C1E9R0CA01-01.pdf; ComponentLink2Description: DigiKey Link; ComponentLink2URL: http://digikey.com/product-detail/en/murata-electronics/GRM0335C1E9R0CA01D/490-16718-1-ND/7595626; Device Package: 0201 (0603 Metric); LastUpdated: 9/2/2020 12:58:58 AM; Lifecycle Status: Active; Minimum Order: 1; Mounting Type: Surface Mount, MLCC; Operating Temperature: -55°C ~ 125°C; Package / Case: 0201 (0603 Metric); Packaging: CutTape; PartId: 942; Part Status: Active; Price: 0.10; Series: GRM; Size / Dimension: 0.024" L x 0.012" W (0.60mm x 0.30mm); Supplier 1: DigiKey; Supplier Part Number 1: 490-16718-1-ND; Thickness (Max): 0.013" (0.33mm); Voltage - Rated: 25V
footprint CAP 0201_0603
pins: 1, 2

## GRM0335C1E9R0DA01D
designator C?, comment 9pF
CAP CER 9PF 25V C0G/NP0 0201; Part Number: GRM0335C1E9R0DA01D; Manufacturer: Murata Electronics; Temperature Coefficient: C0G, NP0; Tolerance: ±0.5pF; Value: 9pF; Applications: General Purpose; Capacitance: 9pF; ComponentLink1Description: Datasheet; ComponentLink1URL: https://www.murata.com/~/media/webrenewal/support/library/catalog/products/capacitor/mlcc/c02e.ashx?la=en-us; ComponentLink2Description: DigiKey Link; ComponentLink2URL: http://digikey.com/product-detail/en/murata-electronics/GRM0335C1E9R0DA01D/490-13326-1-ND/5973338; Device Package: 0201 (0603 Metric); LastUpdated: 9/2/2020 12:59:00 AM; Lifecycle Status: Active; Minimum Order: 1; Mounting Type: Surface Mount, MLCC; Operating Temperature: -55°C ~ 125°C; Package / Case: 0201 (0603 Metric); Packaging: CutTape; PartId: 926; Part Status: Active; Price: 0.10; Series: GRM; Size / Dimension: 0.024" L x 0.012" W (0.60mm x 0.30mm); Supplier 1: DigiKey; Supplier Part Number 1: 490-13326-1-ND; Thickness (Max): 0.013" (0.33mm); Voltage - Rated: 25V
footprint CAP 0201_0603
pins: 1, 2

## GRM0335C1E9R1CA01D
designator C?, comment 9.1pF
CAP CER 9.1PF 25V NP0 0201; Part Number: GRM0335C1E9R1CA01D; Manufacturer: Murata Electronics; Temperature Coefficient: C0G, NP0; Tolerance: ±0.25pF; Value: 9.1pF; Applications: General Purpose; Capacitance: 9.1pF; ComponentLink1Description: Datasheet; ComponentLink1URL: https://search.murata.co.jp/Ceramy/image/img/A01X/G101/ENG/GRM0335C1E9R1CA01-01.pdf; ComponentLink2Description: DigiKey Link; ComponentLink2URL: http://digikey.com/product-detail/en/murata-electronics/GRM0335C1E9R1CA01D/490-16719-1-ND/7595627; Device Package: 0201 (0603 Metric); LastUpdated: 9/2/2020 12:58:59 AM; Lifecycle Status: Active; Minimum Order: 1; Mounting Type: Surface Mount, MLCC; Operating Temperature: -55°C ~ 125°C; Package / Case: 0201 (0603 Metric); Packaging: CutTape; PartId: 934; Part Status: Active; Price: 0.10; Series: GRM; Size / Dimension: 0.024" L x 0.012" W (0.60mm x 0.30mm); Supplier 1: DigiKey; Supplier Part Number 1: 490-16719-1-ND; Thickness (Max): 0.013" (0.33mm); Voltage - Rated: 25V
footprint CAP 0201_0603
pins: 1, 2

## GRM0335C1E100FA01D
designator C?, comment 10pF
CAP CER 10PF 25V C0G/NP0 0201; Part Number: GRM0335C1E100FA01D; Manufacturer: Murata Electronics; Temperature Coefficient: C0G, NP0; Tolerance: ±1%; Value: 10pF; Applications: General Purpose; Capacitance: 10pF; ComponentLink1Description: Datasheet; ComponentLink1URL: https://www.murata.com/~/media/webrenewal/support/library/catalog/products/capacitor/mlcc/c02e.ashx?la=en-us; ComponentLink2Description: DigiKey Link; ComponentLink2URL: http://digikey.com/product-detail/en/murata-electronics/GRM0335C1E100FA01D/490-14541-1-ND/6606147; Device Package: 0201 (0603 Metric); LastUpdated: 9/2/2020 12:58:17 AM; Lifecycle Status: Active; Minimum Order: 1; Mounting Type: Surface Mount, MLCC; Operating Temperature: -55°C ~ 125°C; Package / Case: 0201 (0603 Metric); Packaging: CutTape; PartId: 1415; Part Status: Active; Price: 0.10; Series: GRM; Size / Dimension: 0.024" L x 0.012" W (0.60mm x 0.30mm); Supplier 1: DigiKey; Supplier Part Number 1: 490-14541-1-ND; Thickness (Max): 0.013" (0.33mm); Voltage - Rated: 25V
footprint CAP 0201_0603
pins: 1, 2

## GRM0335C1E100GA01D
designator C?, comment 10pF
CAP CER 10PF 25V C0G/NP0 0201; Part Number: GRM0335C1E100GA01D; Manufacturer: Murata Electronics; Temperature Coefficient: C0G, NP0; Tolerance: ±2%; Value: 10pF; Applications: General Purpose; Capacitance: 10pF; ComponentLink1Description: Datasheet; ComponentLink1URL: https://search.murata.co.jp/Ceramy/image/img/A01X/G101/ENG/GRM0335C1E100GA01-01.pdf; ComponentLink2Description: DigiKey Link; ComponentLink2URL: http://digikey.com/product-detail/en/murata-electronics/GRM0335C1E100GA01D/490-14798-1-ND/6606404; Device Package: 0201 (0603 Metric); LastUpdated: 9/2/2020 12:58:54 AM; Lifecycle Status: Active; Minimum Order: 1; Mounting Type: Surface Mount, MLCC; Operating Temperature: -55°C ~ 125°C; Package / Case: 0201 (0603 Metric); Packaging: CutTape; PartId: 993; Part Status: Active; Price: 0.10; Series: GRM; Size / Dimension: 0.024" L x 0.012" W (0.60mm x 0.30mm); Supplier 1: DigiKey; Supplier Part Number 1: 490-14798-1-ND; Thickness (Max): 0.013" (0.33mm); Voltage - Rated: 25V
footprint CAP 0201_0603
pins: 1, 2

## GRM0335C1E100JA01D
designator C?, comment 10pF
CAP CER 10PF 25V C0G/NP0 0201; Part Number: GRM0335C1E100JA01D; Manufacturer: Murata Electronics; Temperature Coefficient: C0G, NP0; Tolerance: ±5%; Value: 10pF; Applications: General Purpose; Capacitance: 10pF; ComponentLink1Description: Datasheet; ComponentLink1URL: https://search.murata.co.jp/Ceramy/image/img/A01X/G101/ENG/GRM0335C1E100JA01-01.pdf; ComponentLink2Description: DigiKey Link; ComponentLink2URL: http://digikey.com/product-detail/en/murata-electronics/GRM0335C1E100JA01D/490-8607-1-ND/4552455; Device Package: 0201 (0603 Metric); LastUpdated: 9/2/2020 1:00:04 AM; Lifecycle Status: Active; Minimum Order: 1; Mounting Type: Surface Mount, MLCC; Operating Temperature: -55°C ~ 125°C; Package / Case: 0201 (0603 Metric); Packaging: CutTape; PartId: 180; Part Status: Active; Price: 0.10; Series: GRM; Size / Dimension: 0.024" L x 0.012" W (0.60mm x 0.30mm); Supplier 1: DigiKey; Supplier Part Number 1: 490-8607-1-ND; Thickness (Max): 0.013" (0.33mm); Voltage - Rated: 25V
footprint CAP 0201_0603
pins: 1, 2

## GRM0335C1E101FA01D
designator C?, comment 100pF
CAP CER 100PF 25V C0G/NP0 0201; Part Number: GRM0335C1E101FA01D; Manufacturer: Murata Electronics; Temperature Coefficient: C0G, NP0; Tolerance: ±1%; Value: 100pF; Applications: General Purpose; Capacitance: 100pF; ComponentLink1Description: Datasheet; ComponentLink1URL: https://search.murata.co.jp/Ceramy/image/img/A01X/G101/ENG/GRM0335C1E101FA01-01.pdf; ComponentLink2Description: DigiKey Link; ComponentLink2URL: http://digikey.com/product-detail/en/murata-electronics/GRM0335C1E101FA01D/490-11282-1-ND/5333122; Device Package: 0201 (0603 Metric); LastUpdated: 9/2/2020 12:58:54 AM; Lifecycle Status: Active; Minimum Order: 1; Mounting Type: Surface Mount, MLCC; Operating Temperature: -55°C ~ 125°C; Package / Case: 0201 (0603 Metric); Packaging: CutTape; PartId: 990; Part Status: Active; Price: 0.10; Series: GRM; Size / Dimension: 0.024" L x 0.012" W (0.60mm x 0.30mm); Supplier 1: DigiKey; Supplier Part Number 1: 490-11282-1-ND; Thickness (Max): 0.013" (0.33mm); Voltage - Rated: 25V
footprint CAP 0201_0603
pins: 1, 2

## GRM0335C1E101GA01D
designator C?, comment 100pF
CAP CER 100PF 25V NP0 0201; Part Number: GRM0335C1E101GA01D; Manufacturer: Murata Electronics; Temperature Coefficient: C0G, NP0; Tolerance: ±2%; Value: 100pF; Applications: General Purpose; Capacitance: 100pF; ComponentLink1Description: Datasheet; ComponentLink1URL: https://search.murata.co.jp/Ceramy/image/img/A01X/G101/ENG/GRM0335C1E101GA01-01.pdf; ComponentLink2Description: DigiKey Link; ComponentLink2URL: http://digikey.com/product-detail/en/murata-electronics/GRM0335C1E101GA01D/490-17802-1-ND/8540038; Device Package: 0201 (0603 Metric); LastUpdated: 9/2/2020 12:58:57 AM; Lifecycle Status: Active; Minimum Order: 1; Mounting Type: Surface Mount, MLCC; Operating Temperature: -55°C ~ 125°C; Package / Case: 0201 (0603 Metric); Packaging: CutTape; PartId: 964; Part Status: Active; Price: 0.10; Series: GRM; Size / Dimension: 0.024" L x 0.012" W (0.60mm x 0.30mm); Supplier 1: DigiKey; Supplier Part Number 1: 490-17802-1-ND; Thickness (Max): 0.013" (0.33mm); Voltage - Rated: 25V
footprint CAP 0201_0603
pins: 1, 2

## GRM0335C1E101JA01D
designator C?, comment 100pF
CAP CER 100PF 25V C0G/NP0 0201; Part Number: GRM0335C1E101JA01D; Manufacturer: Murata Electronics; Temperature Coefficient: C0G, NP0; Tolerance: ±5%; Value: 100pF; Applications: General Purpose; Capacitance: 100pF; ComponentLink1Description: Datasheet; ComponentLink1URL: https://search.murata.co.jp/Ceramy/image/img/A01X/G101/ENG/GRM0335C1E101JA01-01.pdf; ComponentLink2Description: DigiKey Link; ComponentLink2URL: http://digikey.com/product-detail/en/murata-electronics/GRM0335C1E101JA01D/490-3160-1-ND/702701; Device Package: 0201 (0603 Metric); LastUpdated: 9/2/2020 12:59:19 AM; Lifecycle Status: Active; Minimum Order: 1; Mounting Type: Surface Mount, MLCC; Operating Temperature: -55°C ~ 125°C; Package / Case: 0201 (0603 Metric); Packaging: CutTape; PartId: 707; Part Status: Active; Price: 0.10; Series: GRM; Size / Dimension: 0.024" L x 0.012" W (0.60mm x 0.30mm); Supplier 1: DigiKey; Supplier Part Number 1: 490-3160-1-ND; Thickness (Max): 0.013" (0.33mm); Voltage - Rated: 25V
footprint CAP 0201_0603
pins: 1, 2

## GRM0335C1E102JA01D
designator C?, comment 1000pF
CAP CER 1000PF 25V C0G/NP0 0201; Part Number: GRM0335C1E102JA01D; Manufacturer: Murata Electronics; Temperature Coefficient: C0G, NP0; Tolerance: ±5%; Value: 1000pF; Applications: General Purpose; Capacitance: 1000pF; ComponentLink1Description: Datasheet; ComponentLink1URL: https://search.murata.co.jp/Ceramy/image/img/A01X/G101/ENG/GRM0335C1E102JA01-01.pdf; ComponentLink2Description: DigiKey Link; ComponentLink2URL: http://digikey.com/product-detail/en/murata-electronics/GRM0335C1E102JA01D/490-14448-1-ND/6606909; Device Package: 0201 (0603 Metric); LastUpdated: 9/2/2020 12:59:17 AM; Lifecycle Status: Active; Minimum Order: 1; Mounting Type: Surface Mount, MLCC; Operating Temperature: -55°C ~ 125°C; Package / Case: 0201 (0603 Metric); Packaging: TapeAndReel; PartId: 729; Part Status: Active; Price: 0.01; Series: GRM; Size / Dimension: 0.024" L x 0.012" W (0.60mm x 0.30mm); Supplier 1: DigiKey; Supplier Part Number 1: 490-14448-1-ND; Thickness (Max): 0.013" (0.33mm); Voltage - Rated: 25V
footprint CAP 0201_0603
pins: 1, 2

## GRM0335C1E120FA01D
designator C?, comment 12pF
CAP CER 12PF 25V NP0 0201; Part Number: GRM0335C1E120FA01D; Manufacturer: Murata Electronics; Temperature Coefficient: C0G, NP0; Tolerance: ±1%; Value: 12pF; Applications: General Purpose; Capacitance: 12pF; ComponentLink2Description: DigiKey Link; ComponentLink2URL: http://digikey.com/product-detail/en/murata-electronics/GRM0335C1E120FA01D/490-17803-1-ND/8540039; Device Package: 0201 (0603 Metric); LastUpdated: 9/2/2020 12:58:34 AM; Lifecycle Status: Active; Minimum Order: 1; Mounting Type: Surface Mount, MLCC; Operating Temperature: -55°C ~ 125°C; Package / Case: 0201 (0603 Metric); Packaging: CutTape; PartId: 1229; Part Status: Active; Price: 0.10; Series: GRM; Size / Dimension: 0.024" L x 0.012" W (0.60mm x 0.30mm); Supplier 1: DigiKey; Supplier Part Number 1: 490-17803-1-ND; Thickness (Max): 0.013" (0.33mm); Voltage - Rated: 25V
footprint CAP 0201_0603
pins: 1, 2

## GRM0335C1E120GA01D
designator C?, comment 12pF
CAP CER 12PF 25V C0G/NP0 0201; Part Number: GRM0335C1E120GA01D; Manufacturer: Murata Electronics; Temperature Coefficient: C0G, NP0; Tolerance: ±2%; Value: 12pF; Applications: General Purpose; Capacitance: 12pF; ComponentLink1Description: Datasheet; ComponentLink1URL: https://www.murata.com/~/media/webrenewal/support/library/catalog/products/capacitor/mlcc/c02e.ashx?la=en-us; ComponentLink2Description: DigiKey Link; ComponentLink2URL: http://digikey.com/product-detail/en/murata-electronics/GRM0335C1E120GA01D/490-11967-1-ND/5403180; Device Package: 0201 (0603 Metric); LastUpdated: 9/2/2020 12:58:53 AM; Lifecycle Status: Active; Minimum Order: 1; Mounting Type: Surface Mount, MLCC; Operating Temperature: -55°C ~ 125°C; Package / Case: 0201 (0603 Metric); Packaging: CutTape; PartId: 1009; Part Status: Active; Price: 0.10; Series: GRM; Size / Dimension: 0.024" L x 0.012" W (0.60mm x 0.30mm); Supplier 1: DigiKey; Supplier Part Number 1: 490-11967-1-ND; Thickness (Max): 0.013" (0.33mm); Voltage - Rated: 25V
footprint CAP 0201_0603
pins: 1, 2

## GRM0335C1E120JA01D
designator C?, comment 12pF
CAP CER 12PF 25V C0G/NP0 0201; Part Number: GRM0335C1E120JA01D; Manufacturer: Murata Electronics; Temperature Coefficient: C0G, NP0; Tolerance: ±5%; Value: 12pF; Applications: General Purpose; Capacitance: 12pF; ComponentLink1Description: Datasheet; ComponentLink1URL: https://search.murata.co.jp/Ceramy/image/img/A01X/G101/ENG/GRM0335C1E120JA01-01.pdf; ComponentLink2Description: DigiKey Link; ComponentLink2URL: http://digikey.com/product-detail/en/murata-electronics/GRM0335C1E120JA01D/490-3144-1-ND/702685; Device Package: 0201 (0603 Metric); LastUpdated: 9/2/2020 12:59:04 AM; Lifecycle Status: Active; Minimum Order: 1; Mounting Type: Surface Mount, MLCC; Operating Temperature: -55°C ~ 125°C; Package / Case: 0201 (0603 Metric); Packaging: CutTape; PartId: 879; Part Status: Active; Price: 0.10; Series: GRM; Size / Dimension: 0.024" L x 0.012" W (0.60mm x 0.30mm); Supplier 1: DigiKey; Supplier Part Number 1: 490-3144-1-ND; Thickness (Max): 0.013" (0.33mm); Voltage - Rated: 25V
footprint CAP 0201_0603
pins: 1, 2

## GRM0335C1E130JA01D
designator C?, comment 13pF
CAP CER 13PF 25V NP0 0201; Part Number: GRM0335C1E130JA01D; Manufacturer: Murata Electronics; Temperature Coefficient: C0G, NP0; Tolerance: ±5%; Value: 13pF; Applications: General Purpose; Capacitance: 13pF; ComponentLink1Description: Datasheet; ComponentLink1URL: https://search.murata.co.jp/Ceramy/image/img/A01X/G101/ENG/GRM0335C1E130JA01-01.pdf; ComponentLink2Description: DigiKey Link; ComponentLink2URL: http://digikey.com/product-detail/en/murata-electronics/GRM0335C1E130JA01D/490-16711-1-ND/7595619; Device Package: 0201 (0603 Metric); LastUpdated: 9/2/2020 12:58:59 AM; Lifecycle Status: Active; Minimum Order: 1; Mounting Type: Surface Mount, MLCC; Operating Temperature: -55°C ~ 125°C; Package / Case: 0201 (0603 Metric); Packaging: CutTape; PartId: 940; Part Status: Active; Price: 0.10; Series: GRM; Size / Dimension: 0.024" L x 0.012" W (0.60mm x 0.30mm); Supplier 1: DigiKey; Supplier Part Number 1: 490-16711-1-ND; Thickness (Max): 0.013" (0.33mm); Voltage - Rated: 25V
footprint CAP 0201_0603
pins: 1, 2